# Altium footprint library misc.PcbLib: 20 footprints (part 1 of 2)
Each footprint in its own frame and in the unit in brackets; x right, y up, seen from the top. Pads: shape width x height; smd on the part's side, far side on the other; paste and mask are expansions set on the pad; w line width, h text height; cw(c..) or ccw(c..) is an arc to the next point about the centre after c.
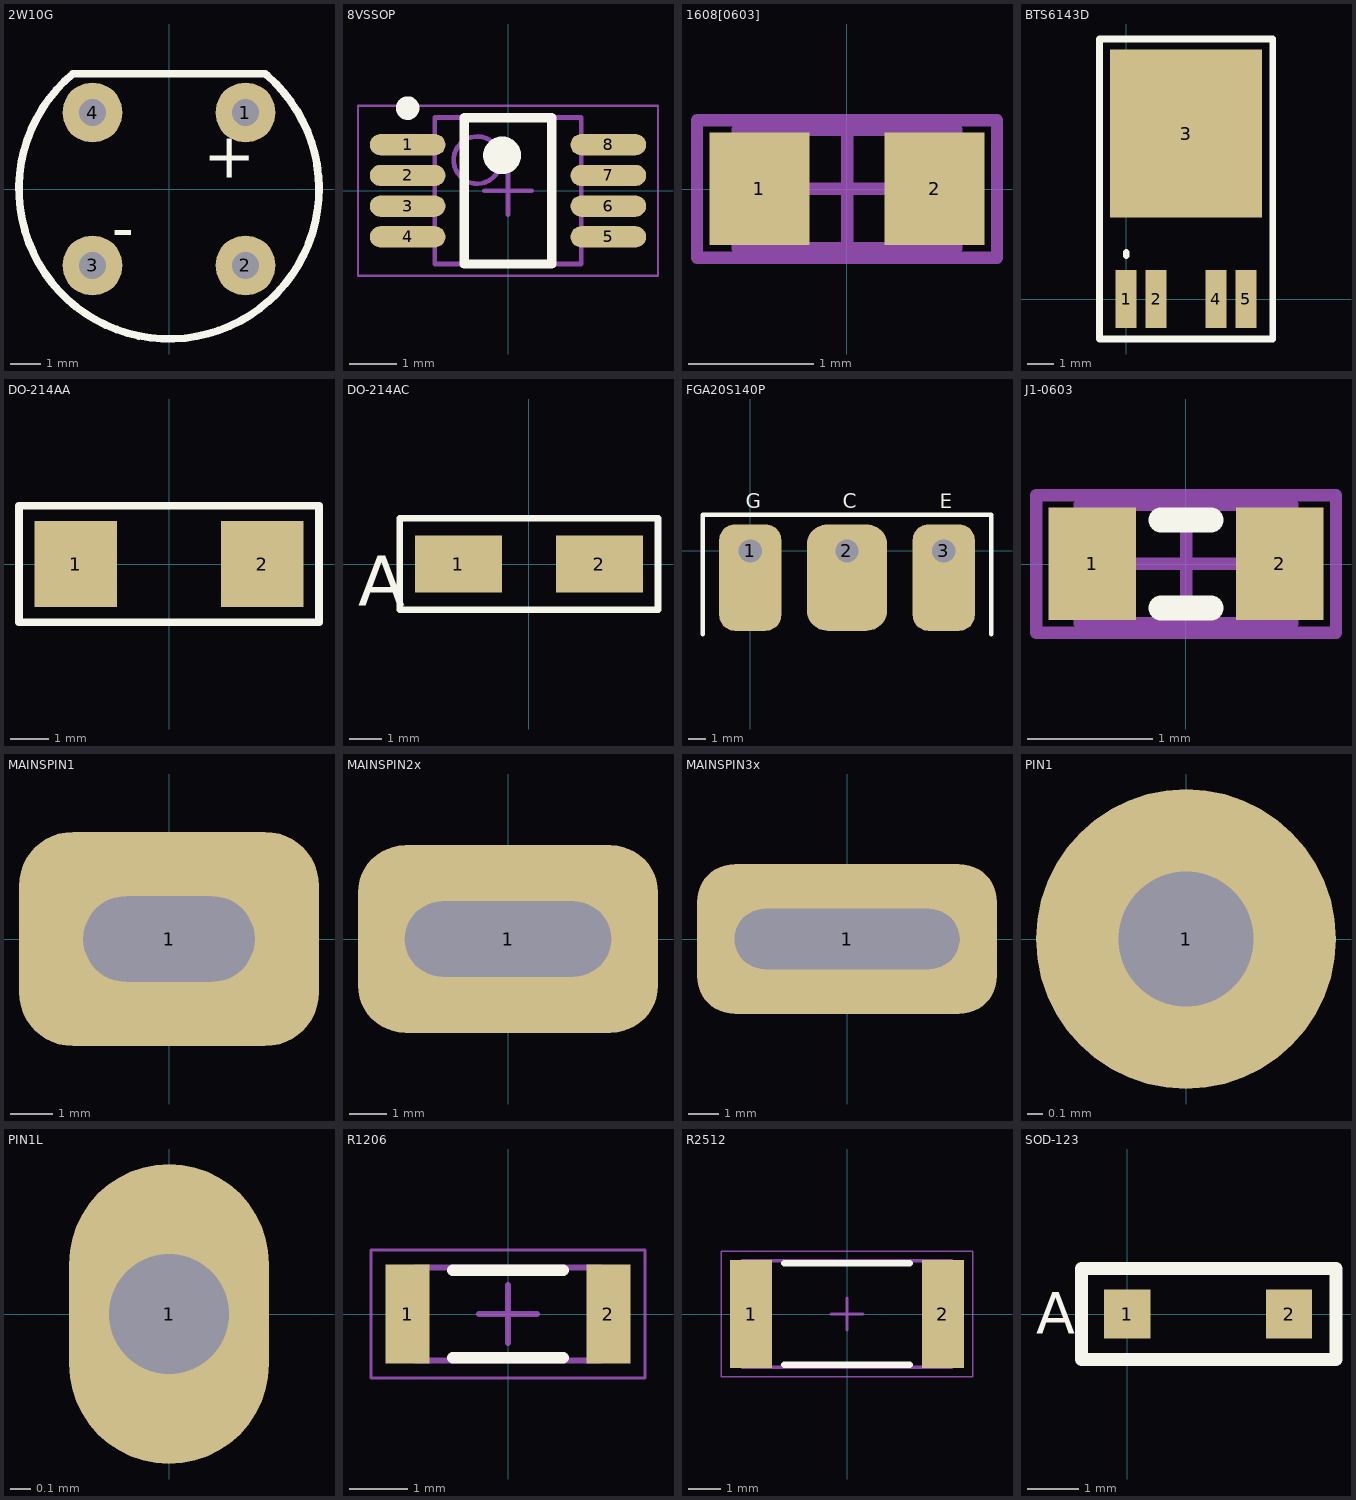
[diagram p0: the footprints below, top view; thin cyan lines are the x and y axes]

## 2W10G [mm]
height 5.6
pads (4):
  round 2 hole 0.9: 1(2.55,2.55) 2(2.55,-2.55) 3(-2.55,-2.55) 4(-2.55,2.55)
Top Overlay:
  lines w0.254: 3.211,3.841 -3.201,3.841 ccw(c0,0) 3.265,3.787
  text "+" at 1.143,0.381 h1.52
  text "-" at -1.905,-2.032 h1.52

## 8VSSOP [mm] "VSSOP, 8-Leads, Body 3.00x3.00mm, Pitch 0.65mm, IPC Medium Density"
height 1.1
pads (8):
  oval 1.6x0.45 smd paste+0 mask+0.03: 1(-2.125,0.975) 2(-2.125,0.325) 3(-2.125,-0.325)
  oval 1.6x0.45 smd mask+0.03: 4(-2.125,-0.975) 5(2.125,-0.975) 6(2.125,-0.325) 7(2.125,0.325) 8(2.125,0.975)
Top Overlay:
  circle w0.4: c-0.125,0.75 r0.2
  circle w0.25: c-2.125,1.75 r0.125
  lines w0.2: -0.925,-1.55 0.925,-1.55 0.925,1.55 -0.925,1.55 -0.925,-1.55
Mechanical 13:
  circle w0.1: c-0.65,0.65 r0.5
  lines w0.1: -1.55,-1.55 1.55,-1.55 1.55,1.55 -1.55,1.55 -1.55,-1.55
Mechanical 15:
  lines w0.05: -3.175,-1.8 3.175,-1.8 3.175,1.8 -3.175,1.8 -3.175,-1.8
  lines w0.1: -0.5,0 0.5,0 ; 0,-0.5 0,0.5
3D body: height 1.1, standoff 0.1, extent -1.55,-1.55 1.55,1.55

## 1608[0603] [mm] "Chip Capacitor, Body 1.6x0.8mm, IPC High Density"
height 1.3
pads (2):
  rect 0.8x0.9 smd: 1(-0.7,0) 2(0.7,0)
Mechanical 13:
  lines w0.1: -0.875,-0.475 0.875,-0.475 0.875,0.475 -0.875,0.475 -0.875,-0.475
Mechanical 15:
  lines w0.1: -0.475,0 0.475,0 ; 0,-0.475 0,0.475 ; -1.2,-0.55 1.2,-0.55 1.2,0.55 -1.2,0.55 -1.2,-0.55
3D body: height 1.3, standoff 0, extent -0.875,-0.475 0.875,0.475

## BTS6143D [mm]
height 2.3
pads (5):
  rect 0.8x2.2 smd mask+0.03: 1(0,0) 2(1.14,0) 4(3.42,0) 5(4.56,0)
  rect 5.8x6.4 smd: 3(2.28,6.3)
Top Overlay:
  lines w0.254: 0,1.651 0,1.778 ; -1.016,-1.524 -1.016,9.906 5.588,9.906 5.588,-1.524 -1.016,-1.524

## DO-214AA [mm]
pads (2):
  rect 2.16x2.26 smd: 1(-2.45,0) 2(2.45,0)
Top Overlay:
  lines w0.2: -3.937,-1.524 -3.937,1.524 3.937,1.524 3.937,-1.524 -3.937,-1.524

## DO-214AC [mm]
pads (2):
  rect 2.65x1.75 smd: 1(-2.15,0) 2(2.15,0)
Top Overlay:
  lines w0.2: -3.937,-1.397 3.937,-1.397 3.937,1.397 -3.937,1.397 -3.937,-1.397
  text "A" at -5.207,-1.27 h1.52

## FGA20S140P [mm]
height 7
pads (3):
  rrect50% 3.5x6 hole 1.3 copper offset 0,-1.5: 1(0,0) 3(10.9,0)
  rrect50% 4.5x6 hole 1.3 copper offset 0,-1.5: 2(5.45,0)
Top Overlay:
  lines w0.254: -2.667,-4.699 -2.667,-2.635 -2.667,-0.032 -2.667,2.032 13.589,2.032 13.589,-4.699
  text "E" at 10.668,2.413 h0.81
  text "C" at 5.207,2.413 h0.81
  text "G" at -0.254,2.413 h0.81

## J1-0603 [mm] "Chip Resistor, Body 1.6x0.8mm, IPC High Density"
height 0.9
pads (2):
  rect 0.7x0.9 smd: 1(-0.75,0) 2(0.75,0)
Top Overlay:
  lines w0.2: -0.2,-0.35 0.2,-0.35 ; -0.2,0.35 0.2,0.35
Mechanical 13:
  lines w0.1: -0.85,-0.475 -0.85,0.475 0.85,0.475 0.85,-0.475 -0.85,-0.475
Mechanical 15:
  lines w0.1: -0.475,0 0.475,0 ; 0,-0.475 0,0.475 ; -1.2,-0.55 -1.2,0.55 1.2,0.55 1.2,-0.55 -1.2,-0.55
3D body: height 0.9, standoff 0, extent -0.85,-0.475 0.85,0.475

## MAINSPIN1 [mm]
pads (1):
  rrect50% 7x5 hole 2 slot 4 at 0 deg: 1(0,0)

## MAINSPIN2x [mm]
pads (1):
  rrect50% 8x5 hole 2 slot 5.5 at 0 deg: 1(0,0)

## MAINSPIN3x [mm]
pads (1):
  rrect50% 10x5 hole 2 slot 7.5 at 0 deg: 1(0,0)

## PIN1 [mm] "Connector; Plug"
pads (1):
  round 2 hole 0.9: 1(0,0)

## PIN1L [mm] "Connector; Plug"
pads (1):
  oval 1x1.5 hole 0.6: 1(0,0)

## R1206 [mm] "Chip Resistor, 2-Leads, Body 3.20x1.60mm, IPC Medium Density"
height 0.6
pads (2):
  rect 0.75x1.7 smd: 1(-1.725,0) 2(1.725,0)
Top Overlay:
  lines w0.2: -0.95,-0.75 0.95,-0.75 ; -0.95,0.75 0.95,0.75
Mechanical 13:
  lines w0.1: -1.6,-0.8 1.6,-0.8 1.6,0.8 -1.6,0.8 -1.6,-0.8
Mechanical 15:
  lines w0.05: -2.35,-1.1 2.35,-1.1 2.35,1.1 -2.35,1.1 -2.35,-1.1
  lines w0.1: -0.5,0 0.5,0 ; 0,-0.5 0,0.5
3D body: height 0.6, standoff 0, extent 1.4,-0.8 1.6,0.8
3D body: height 0.6, standoff 0, extent -1.6,-0.8 -1.4,0.8
3D body: height 0.6, standoff 0, extent -1.4,-0.8 1.4,0.8

## R2512 [mm]
height 0.6
pads (2):
  rect 1.3x3.35 smd: 1(-2.975,0) 2(2.975,0)
Top Overlay:
  lines w0.2: -1.95,-1.575 1.95,-1.575 ; -1.95,1.575 1.95,1.575
Mechanical 13:
  lines w0.1: -3.25,-1.65 3.25,-1.65 3.25,1.65 -3.25,1.65 -3.25,-1.65
Mechanical 15:
  lines w0.05: -3.9,-1.95 3.9,-1.95 3.9,1.95 -3.9,1.95 -3.9,-1.95
  lines w0.1: -0.5,0 0.5,0 ; 0,-0.5 0,0.5
3D body: height 0.6, standoff 0, extent 2.65,-1.65 3.25,1.65
3D body: height 0.6, standoff 0, extent -3.25,-1.65 -2.65,1.65
3D body: height 0.6, standoff 0, extent -2.65,-1.65 2.65,1.65

## SOD-123 [mm]
height 3
pads (2):
  rect 0.9x0.95 smd: 1(0,0) 2(3.15,0)
Top Overlay:
  lines w0.254: -0.889,-0.889 4.064,-0.889 4.064,0.889 -0.889,0.889 -0.889,-0.889
  text "A" at -1.778,-0.381 h0.81